# Altium footprint library USB.PcbLib: 1 footprints
Each footprint in its own frame and in the unit in brackets; x right, y up, seen from the top. Pads: shape width x height; smd on the part's side, far side on the other; paste and mask are expansions set on the pad; w line width, h text height; cw(c..) or ccw(c..) is an arc to the next point about the centre after c.
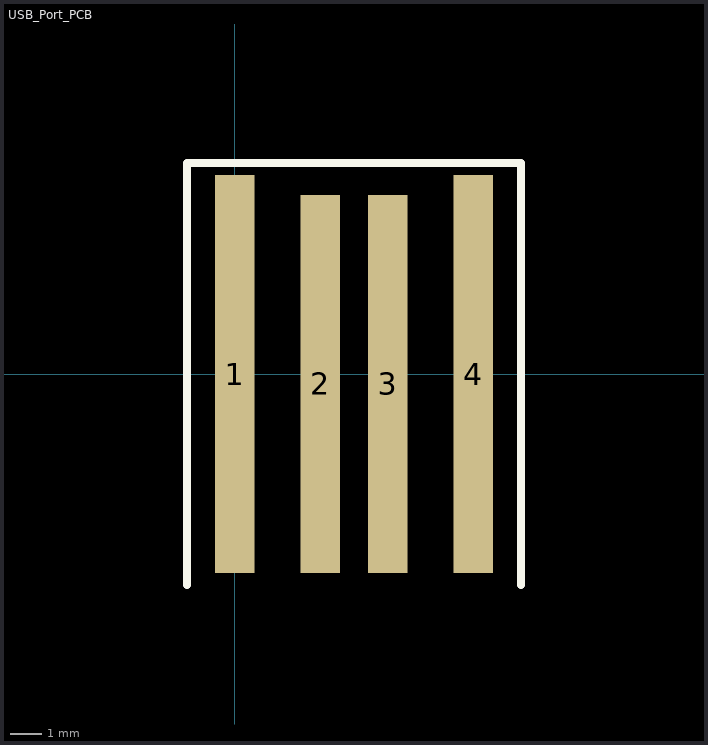
[diagram p0: the footprint, top view; thin cyan lines are the x and y axes]

## USB_Port_PCB [mil] "USB_A_MALE"
pads (4):
  rect 50x500 smd: 1(0,0) 4(300,0)
  rect 50x475 smd: 2(107.5,-12.5) 3(192.5,-12.5)
Top Overlay:
  lines w10: -60,-265 -60,-147.5 -60,127.5 -60,265 360,265 360,-265